# Altium footprint library STM32F407IGT6.PcbLib: 1 footprints
Each footprint in its own frame and in the unit in brackets; x right, y up, seen from the top. Pads: shape width x height; smd on the part's side, far side on the other; paste and mask are expansions set on the pad; w line width, h text height; cw(c..) or ccw(c..) is an arc to the next point about the centre after c.
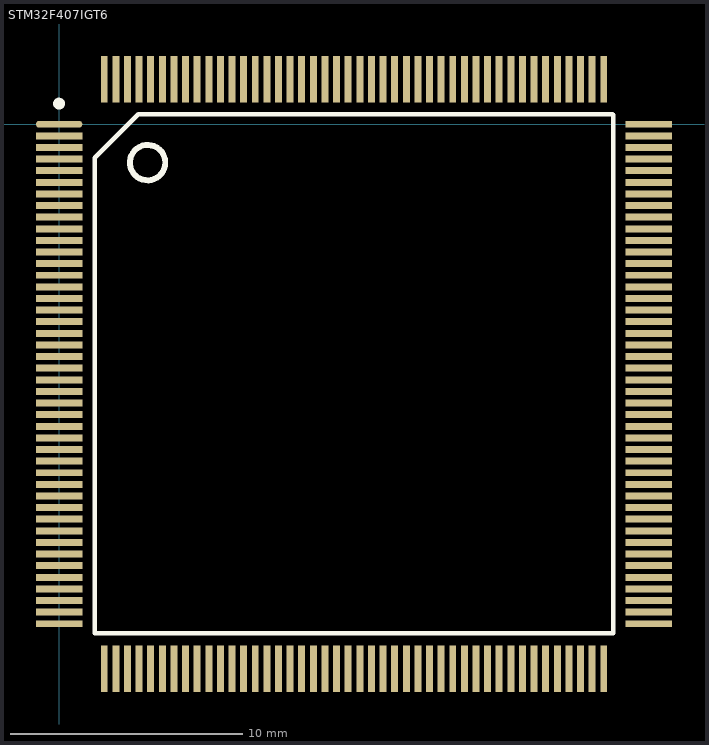
[diagram p0: the footprint, top view; thin cyan lines are the x and y axes]

## STM32F407IGT6 [mm]
pads (176):
  oval 2x0.3 smd: 1(0,0)
  rect 2x0.3 smd: 2(0,-0.5) 3(0,-1) 4(0,-1.5) 5(0,-2) 6(0,-2.5) 7(0,-3) 8(0,-3.5) 9(0,-4) 10(0,-4.5) 11(0,-5) 12(0,-5.5) 13(0,-6) 14(0,-6.5) 15(0,-7) 16(0,-7.5) 17(0,-8) 18(0,-8.5) 19(0,-9) 20(0,-9.5) 21(0,-10) 22(0,-10.5) 23(0,-11) 24(0,-11.5) 25(0,-12) 26(0,-12.5) 27(0,-13) 28(0,-13.5) 29(0,-14) 30(0,-14.5) 31(0,-15) 32(0,-15.5) 33(0,-16) 34(0,-16.5) 35(0,-17) 36(0,-17.5) 37(0,-18) 38(0,-18.5) 39(0,-19) 40(0,-19.5) 41(0,-20) 42(0,-20.5) 43(0,-21) 44(0,-21.5) 89(25.392,-21.5) 90(25.392,-21) 91(25.392,-20.5) 92(25.392,-20) 93(25.392,-19.5) 94(25.392,-19) 95(25.392,-18.5) 96(25.392,-18) 97(25.392,-17.5) 98(25.392,-17) 99(25.392,-16.5) 100(25.392,-16) 101(25.392,-15.5) 102(25.392,-15) 103(25.392,-14.5) 104(25.392,-14) 105(25.392,-13.5) 106(25.392,-13) 107(25.392,-12.5) 108(25.392,-12) 109(25.392,-11.5) 110(25.392,-11) 111(25.392,-10.5) 112(25.392,-10) 113(25.392,-9.5) 114(25.392,-9) 115(25.392,-8.5) 116(25.392,-8) 117(25.392,-7.5) 118(25.392,-7) 119(25.392,-6.5) 120(25.392,-6) 121(25.392,-5.5) 122(25.392,-5) 123(25.392,-4.5) 124(25.392,-4) 125(25.392,-3.5) 126(25.392,-3) 127(25.392,-2.5) 128(25.392,-2) 129(25.392,-1.5) 130(25.392,-1) 131(25.392,-0.5) 132(25.392,0)
  rect 0.3x2 smd: 45(1.946,-23.446) 46(2.446,-23.446) 47(2.946,-23.446) 48(3.446,-23.446) 49(3.946,-23.446) 50(4.446,-23.446) 51(4.946,-23.446) 52(5.446,-23.446) 53(5.946,-23.446) 54(6.446,-23.446) 55(6.946,-23.446) 56(7.446,-23.446) 57(7.946,-23.446) 58(8.446,-23.446) 59(8.946,-23.446) 60(9.446,-23.446) 61(9.946,-23.446) 62(10.446,-23.446) 63(10.946,-23.446) 64(11.446,-23.446) 65(11.946,-23.446) 66(12.446,-23.446) 67(12.946,-23.446) 68(13.446,-23.446) 69(13.946,-23.446) 70(14.446,-23.446) 71(14.946,-23.446) 72(15.446,-23.446) 73(15.946,-23.446) 74(16.446,-23.446) 75(16.946,-23.446) 76(17.446,-23.446) 77(17.946,-23.446) 78(18.446,-23.446) 79(18.946,-23.446) 80(19.446,-23.446) 81(19.946,-23.446) 82(20.446,-23.446) 83(20.946,-23.446) 84(21.446,-23.446) 85(21.946,-23.446) 86(22.446,-23.446) 87(22.946,-23.446) 88(23.446,-23.446) 133(23.446,1.946) 134(22.946,1.946) 135(22.446,1.946) 136(21.946,1.946) 137(21.446,1.946) 138(20.946,1.946) 139(20.446,1.946) 140(19.946,1.946) 141(19.446,1.946) 142(18.946,1.946) 143(18.446,1.946) 144(17.946,1.946) 145(17.446,1.946) 146(16.946,1.946) 147(16.446,1.946) 148(15.946,1.946) 149(15.446,1.946) 150(14.946,1.946) 151(14.446,1.946) 152(13.946,1.946) 153(13.446,1.946) 154(12.946,1.946) 155(12.446,1.946) 156(11.946,1.946) 157(11.446,1.946) 158(10.946,1.946) 159(10.446,1.946) 160(9.946,1.946) 161(9.446,1.946) 162(8.946,1.946) 163(8.446,1.946) 164(7.946,1.946) 165(7.446,1.946) 166(6.946,1.946) 167(6.446,1.946) 168(5.946,1.946) 169(5.446,1.946) 170(4.946,1.946) 171(4.446,1.946) 172(3.946,1.946) 173(3.446,1.946) 174(2.946,1.946) 175(2.446,1.946) 176(1.946,1.946)
Top Overlay:
  circle w0.254: c0,0.889 r0.127
  circle w0.254: c3.81,-1.651 r0.762
  lines w0.2: 23.825,0.432 3.404,0.432 1.531,-1.441 1.531,-21.915 23.861,-21.915 23.861,0.415
3D body: height 1.1, standoff 0, extent -0.309,-23.753 25.709,2.265